# EAGLE library part THS7374 (library TI-VideoAmp)
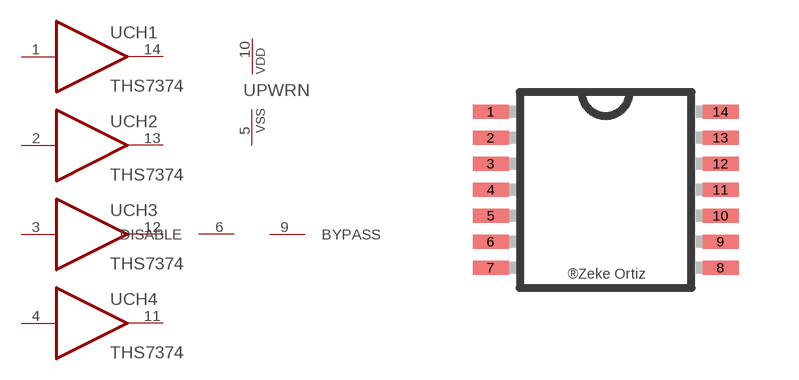
[diagram p1: symbol with the pads of TSSOP14; footprint TSSOP14]

Designator prefix -; gates CH1=BUFFER CH2=BUFFER CH3=BUFFER CH4=BUFFER PWRN=PWRN G$1=I/O

## THS7374  [TSSOP14]
1  CH1:I
2  CH2:I
3  CH3:I
4  CH4:I
5  PWRN:VSS  pwr
6  G$1:DISABLE
9  G$1:BYPASS
10  PWRN:VDD  pwr
11  CH4:O  out
12  CH3:O  out
13  CH2:O  out
14  CH1:O  out

## Footprint TSSOP14 (pad centres in mm)
14-Lead Thin Shrink Small Outline Package [TSSOP] Source: Analog Devices .. 780914713ADD8704_0.pdf
smd 0.9 x 0.35: 1 -2.875,1.95; 2 -2.875,1.3; 3 -2.875,0.65; 4 -2.875,0; 5 -2.875,-0.65; 6 -2.875,-1.3; 7 -2.875,-1.95; 8 2.875,-1.95; 9 2.875,-1.3; 10 2.875,-0.65; 11 2.875,0; 12 2.875,0.65; 13 2.875,1.3; 14 2.875,1.95